# Altium schematic symbol library CC2538.SchLib: 1 symbol
Pins are listed as number, name and electrical type; pins without a type are passive.

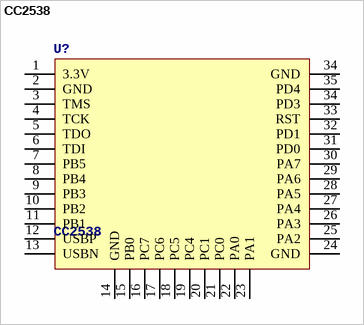
[diagram p0: symbol CC2538]

## CC2538
designator U?
footprint RFM69HCW-XXXS2
pins: 1 3.3V (power), 2 GND (power), 3 TMS, 4 TCK, 5 TDO, 6 TDI, 7 PB5, 8 PB4, 9 PB3, 10 PB2, 11 PB1, 12 USBP, 13 USBN, 14 GND (power), 15 PB0, 16 PC7, 17 PC6, 18 PC5, 19 PC4, 20 PC1, 21 PC0, 22 PA0, 23 PA1, 24 GND (power), 25 PA2, 26 PA3, 27 PA4, 28 PA5, 29 PA6, 30 PA7, 31 PD0, 32 PD1, 33 RST, 34 PD3, 34 GND (power), 35 PD4